# Altium footprint library Transistors.PcbLib: 7 footprints
Each footprint in its own frame and in the unit in brackets; x right, y up, seen from the top. Pads: shape width x height; smd on the part's side, far side on the other; paste and mask are expansions set on the pad; w line width, h text height; cw(c..) or ccw(c..) is an arc to the next point about the centre after c.
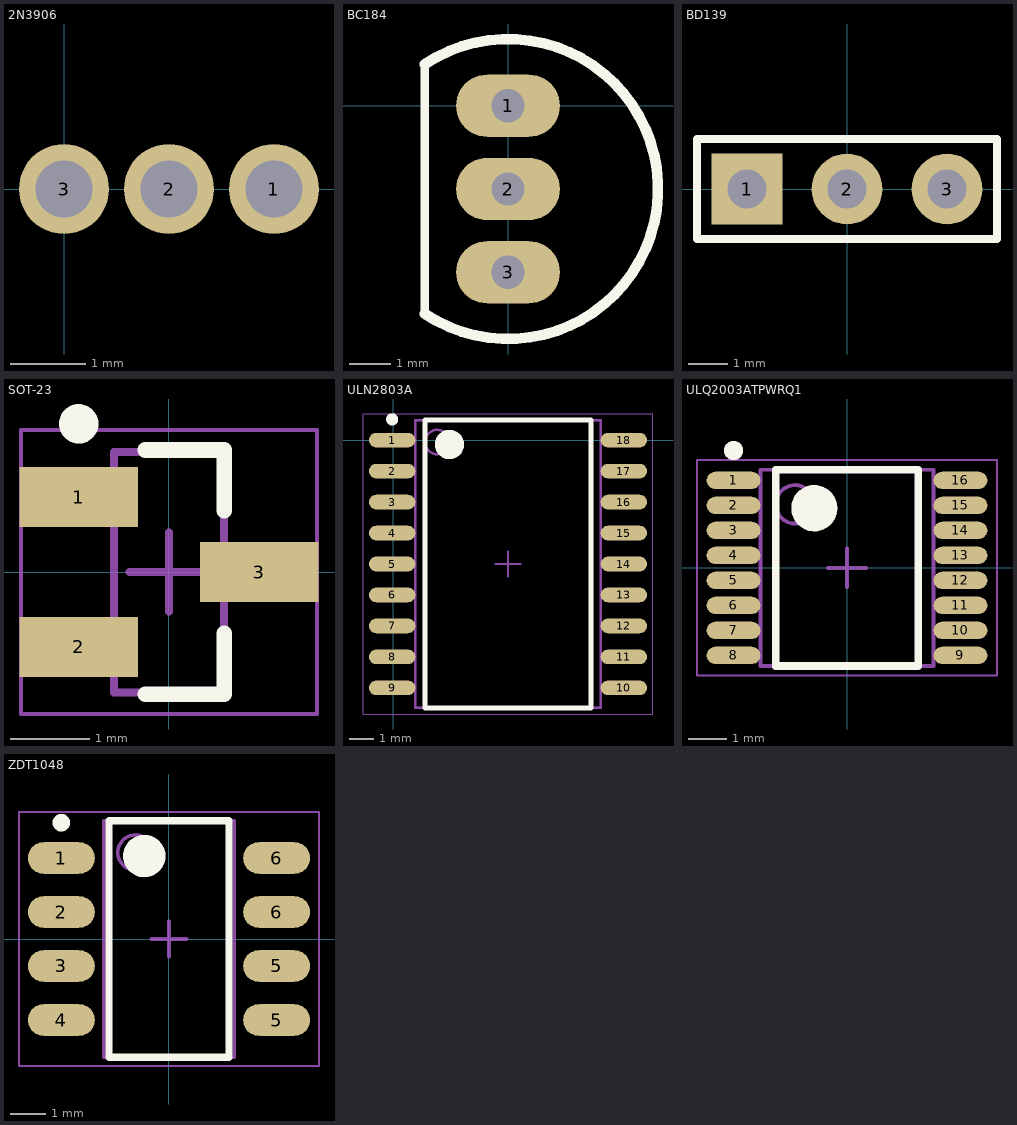
[diagram p0: the footprints below, top view; thin cyan lines are the x and y axes]

## 2N3906 [mm] "2N3906 Through hole"
pads (3):
  round 1.2 hole 0.762: 1(2.8,0) 2(1.4,0) 3(0,0)

## BC184 [mm] "NPN transistor"
pads (3):
  oval 2.5x1.5 hole 0.8: 1(0,0) 2(0,-2) 3(0,-4)
Top Overlay:
  lines w0.2: -2,-5 -2,1
  lines w0.254: -2,-5 ccw(c0,-2) -2,1

## BD139 [mm]
pads (3):
  rect 1.8x1.8 hole 1: 1(-2.54,0)
  round 1.8 hole 1: 2(0,0) 3(2.54,0)
Top Overlay:
  lines w0.2: -3.81,-1.27 -3.81,1.27 3.81,1.27 3.81,-1.27 -3.81,-1.27

## SOT-23 [mm] "SOT23, 3-Leads, Body 2.92x2.31mm, Pitch 0.95mm, IPC Medium Density"
height 1.1
pads (3):
  rect 1.5x0.76 smd: 1(-1.145,0.95) 2(-1.145,-0.95) 3(1.145,0)
Top Overlay:
  circle w0.25: c-1.145,1.88 r0.125
  lines w0.2: -0.3,-1.55 0.7,-1.55 0.7,-0.78 ; -0.3,1.55 0.7,1.55 0.7,0.78
Mechanical 13:
  lines w0.1: -0.7,-1.525 -0.7,1.525 0.7,1.525 0.7,-1.525 -0.7,-1.525
Mechanical 15:
  lines w0.05: -1.875,-1.8 -1.875,1.8 1.875,1.8 1.875,-1.8 -1.875,-1.8
  lines w0.1: -0.5,0 0.5,0 ; 0,-0.5 0,0.5
3D body: height 0.55, standoff 0, extent 0.762,-0.432 1.524,0.457
3D body: height 0.55, standoff 0, extent -1.524,-1.397 -0.762,-0.508
3D body: height 0.55, standoff 0, extent -1.524,0.508 -0.762,1.397
3D body: height 1.1, standoff 0.01, extent -0.7,-1.525 0.7,1.525

## ULN2803A [mm] "Darlington Driver"
pads (18):
  oval 1.9x0.6 smd: 1(-0.051,0) 2(-0.051,-1.27) 3(-0.051,-2.54) 4(-0.051,-3.81) 5(-0.051,-5.08) 6(-0.051,-6.35) 7(-0.051,-7.62) 8(-0.051,-8.89) 9(-0.051,-10.16) 10(9.449,-10.16) 11(9.449,-8.89) 12(9.449,-7.62) 13(9.449,-6.35) 14(9.449,-5.08) 15(9.449,-3.81) 16(9.449,-2.54) 17(9.449,-1.27) 18(9.449,0)
Top Overlay:
  circle w0.25: c-0.051,0.85 r0.125
  circle w0.6: c2.299,-0.18 r0.3
  lines w0.2: 1.299,-10.98 1.299,0.82 8.099,0.82 8.099,-10.98 1.299,-10.98
Mechanical 13:
  circle w0.1: c1.799,-0.08 r0.5
  lines w0.1: 0.899,-10.98 0.899,0.82 8.499,0.82 8.499,-10.98 0.899,-10.98
Mechanical 15:
  lines w0.05: -1.226,-11.23 -1.226,1.07 10.624,1.07 10.624,-11.23 -1.226,-11.23
  lines w0.1: 4.199,-5.08 5.199,-5.08 ; 4.699,-5.58 4.699,-4.58
3D body "ULN2803A_SOIC.step": height 2.65, standoff 0, extent -0.451,-10.98 9.849,0.82

## ULQ2003ATPWRQ1 [mm] "TSOP, 16-Leads, Body 5.00x4.40mm, Pitch 0.65mm, IPC Medium Density"
height 1.2
pads (16):
  oval 1.4x0.45 smd: 1(-2.95,2.275) 2(-2.95,1.625) 3(-2.95,0.975) 4(-2.95,0.325) 5(-2.95,-0.325) 6(-2.95,-0.975) 7(-2.95,-1.625) 8(-2.95,-2.275) 9(2.95,-2.275) 10(2.95,-1.625) 11(2.95,-0.975) 12(2.95,-0.325) 13(2.95,0.325) 14(2.95,0.975) 15(2.95,1.625) 16(2.95,2.275)
Top Overlay:
  circle w0.6: c-0.85,1.55 r0.3
  circle w0.25: c-2.95,3.05 r0.125
  lines w0.2: -1.85,-2.55 1.85,-2.55 1.85,2.55 -1.85,2.55 -1.85,-2.55
Mechanical 13:
  circle w0.1: c-1.35,1.65 r0.5
  lines w0.1: -2.25,-2.55 2.25,-2.55 2.25,2.55 -2.25,2.55 -2.25,-2.55
Mechanical 15:
  lines w0.05: -3.9,-2.8 3.9,-2.8 3.9,2.8 -3.9,2.8 -3.9,-2.8
  lines w0.1: -0.5,0 0.5,0 ; 0,-0.5 0,0.5
3D body "TSOP65P640X120-16N.step": height 1.2, standoff 0, extent -3.2,-2.55 3.2,2.55

## ZDT1048 [mm] "ZDT1048 Matched Transistors"
height 1.7
pads (8):
  oval 1.9x0.9 smd: 1(-3.05,2.295) 2(-3.05,0.765) 3(-3.05,-0.765) 4(-3.05,-2.295) 5(3.05,-2.295) 5(3.05,-0.765) 6(3.05,0.765) 6(3.05,2.295)
Top Overlay:
  circle w0.6: c-0.7,2.35 r0.3
  circle w0.25: c-3.05,3.295 r0.125
  lines w0.2: -1.7,-3.35 1.7,-3.35 1.7,3.35 -1.7,3.35 -1.7,-3.35
Mechanical 13:
  circle w0.1: c-0.95,2.45 r0.5
  lines w0.1: -1.85,-3.35 1.85,-3.35 1.85,3.35 -1.85,3.35 -1.85,-3.35
Mechanical 15:
  lines w0.05: -4.25,-3.6 4.25,-3.6 4.25,3.6 -4.25,3.6 -4.25,-3.6
  lines w0.1: -0.5,0 0.5,0 ; 0,-0.5 0,0.5
3D body "ZDT1048.step": height 1.7, standoff 0, extent -3.5,-3.35 3.5,3.35